# Altium schematic symbol library STM8L.SchLib: 79 symbols (part 2 of 3)
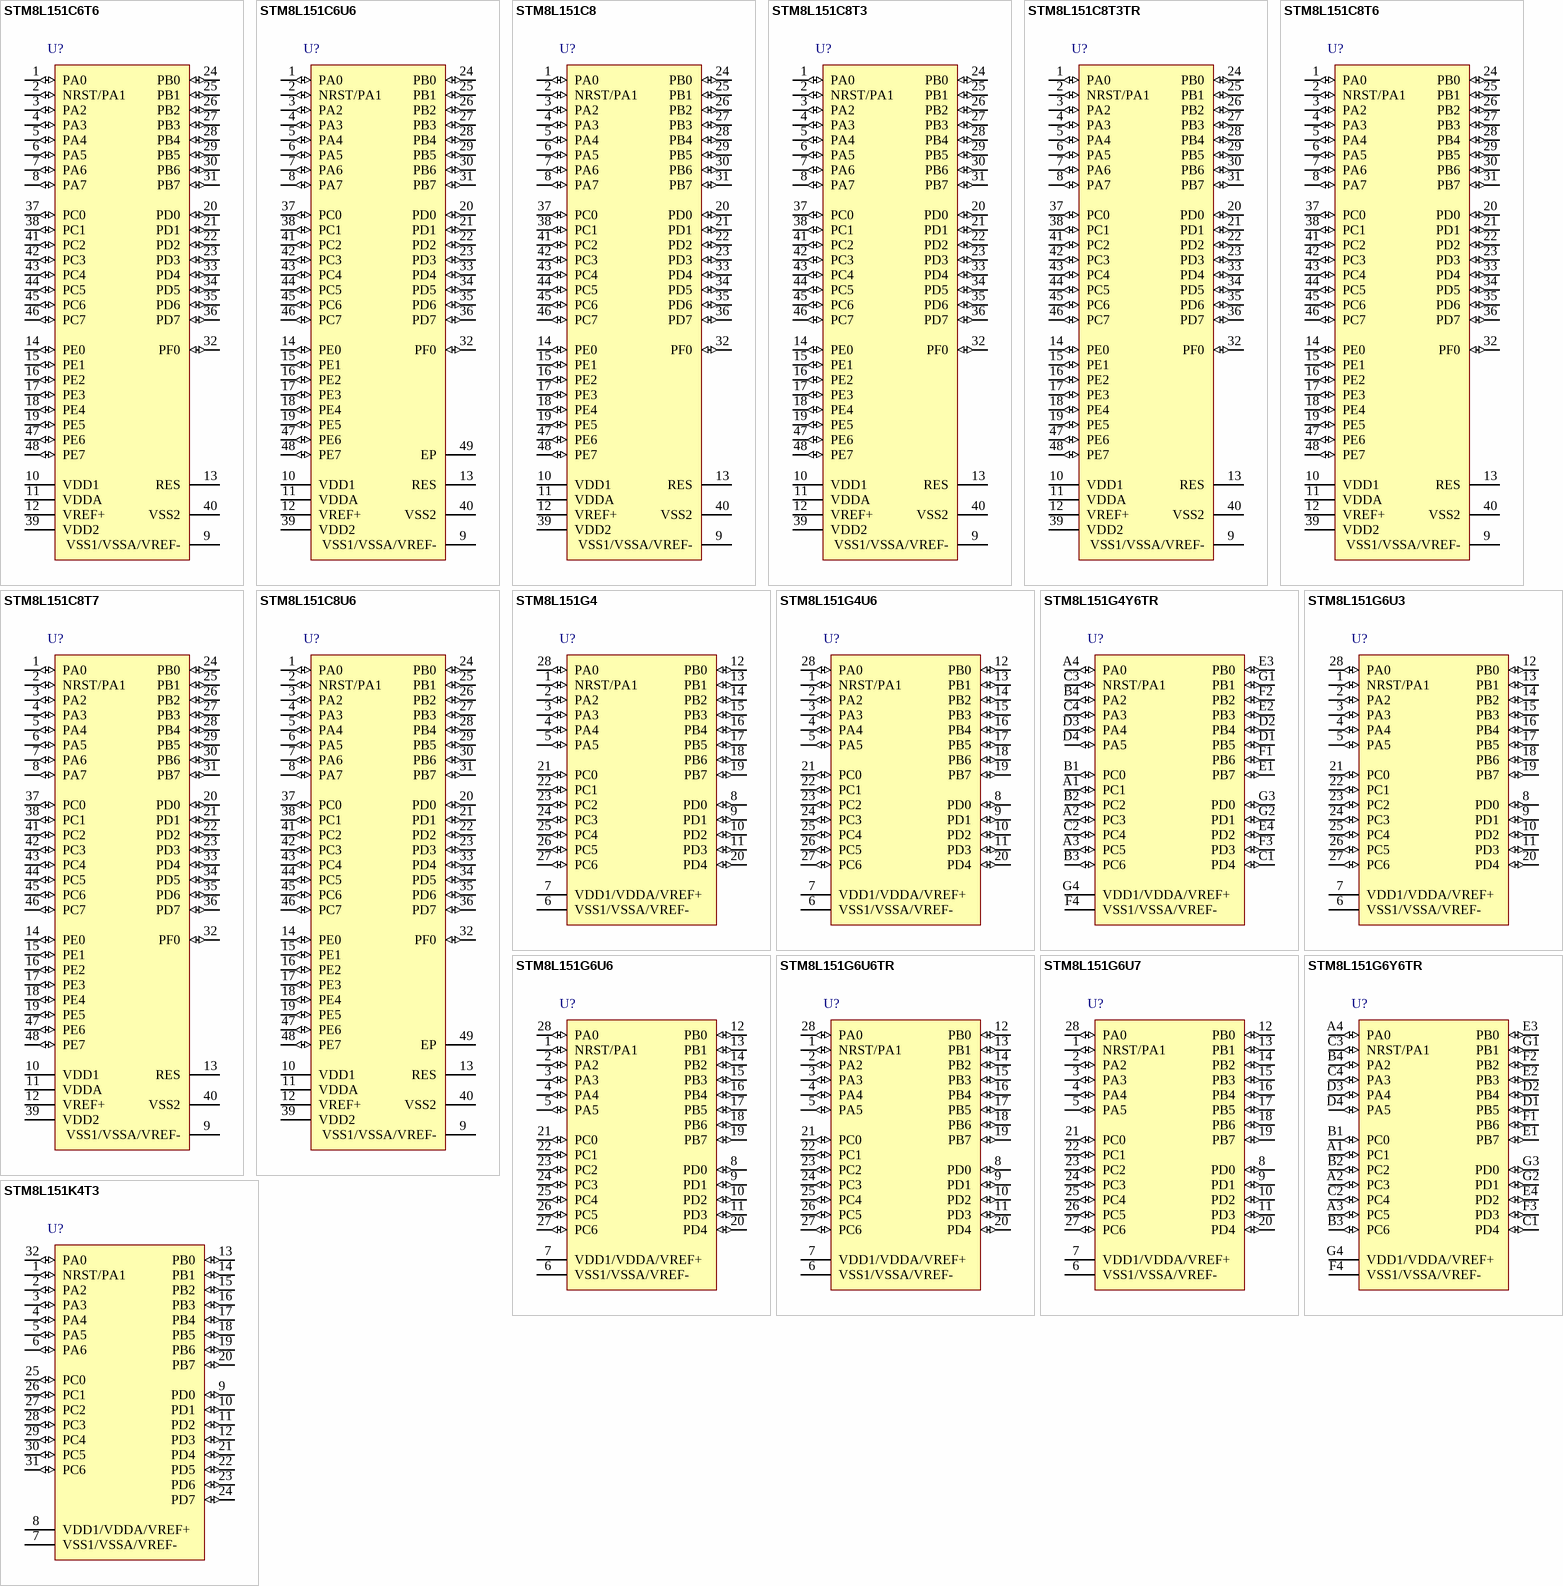
[diagram p6: symbols STM8L151C6T6 to STM8L151K4T3]

## STM8L151G4U6
designator U?
STM8L ARM-based EnergyLite 8-bit MCU, 16 kB Flash, 2 kB Internal RAM, -40 to +85°C Temperature, 28-pin UFQFPN, Tray; PackageVersion: 26/04/2010; PackageReference: UFQFPN28; PackageDescription: 28-Pin Ultra Thin Fine Pitch Quad Flat No-Lead, 4 x 4 x 0.55 mm Body, 0.5 mm Pitch; ComponentLink1Description: Manufacturer URL; ComponentLink1URL: http://www.st.com/; ComponentLink2Description: STM8L151/152,x4,x6 Datasheet; ComponentLink2URL: http://www.st.com/internet/com/TECHNICAL_RESOURCES/TECHNICAL_LITERATURE/DATASHEET/CD00240181.pdf; ComponentLink3Description: STM8L Family Web Page; ComponentLink3URL: http://www.st.com/internet/mcu/subclass/1381.jsp
footprint UFQFPN28_V (Manufacturer "STMicroelectronics" not found)
pins: 1 NRST/PA1 (io), 2 PA2 (io), 3 PA3 (io), 4 PA4 (io), 5 PA5 (io), 6 VSS1/VSSA/VREF- (power), 7 VDD1/VDDA/VREF+ (power), 8 PD0 (io), 9 PD1 (io), 10 PD2 (io), 11 PD3 (io), 12 PB0 (io), 13 PB1 (io), 14 PB2 (io), 15 PB3 (io), 16 PB4 (io), 17 PB5 (io), 18 PB6 (io), 19 PB7 (io), 20 PD4 (io), 21 PC0 (io), 22 PC1 (io), 23 PC2 (io), 24 PC3 (io), 25 PC4 (io), 26 PC5 (io), 27 PC6 (io), 28 PA0 (io)

## STM8L151G4Y6TR
designator U?
STM8L ARM-based EnergyLite 8-bit MCU, 16 kB Flash, 2 kB Internal RAM, -40 to +85°C Temperature, 28-pin WLCSP, Tape and Reel; PackageVersion: 2011; PackageReference: WLCSP28; PackageDescription: 28-Ball Wafer Level Chip Scale Package, 1.70 x 2.84 x 0.4 mm Body, 0.4 mm Pitch; ComponentLink1Description: Manufacturer URL; ComponentLink1URL: http://www.st.com/; ComponentLink2Description: STM8L151/152,x4,x6 Datasheet; ComponentLink2URL: http://www.st.com/internet/com/TECHNICAL_RESOURCES/TECHNICAL_LITERATURE/DATASHEET/CD00240181.pdf; ComponentLink3Description: STM8L Family Web Page; ComponentLink3URL: http://www.st.com/internet/mcu/subclass/1381.jsp
footprint WLCSP28 (Manufacturer "STMicroelectronics" not found)
pins: A1 PC1 (io), A2 PC3 (io), A3 PC5 (io), A4 PA0 (io), B1 PC0 (io), B2 PC2 (io), B3 PC6 (io), B4 PA2 (io), C1 PD4 (io), C2 PC4 (io), C3 NRST/PA1 (io), C4 PA3 (io), D1 PB5 (io), D2 PB4 (io), D3 PA4 (io), D4 PA5 (io), E1 PB7 (io), E2 PB3 (io), E3 PB0 (io), E4 PD2 (io), F1 PB6 (io), F2 PB2 (io), F3 PD3 (io), F4 VSS1/VSSA/VREF- (power), G1 PB1 (io), G2 PD1 (io), G3 PD0 (io), G4 VDD1/VDDA/VREF+ (power)

## STM8L151G6U3
designator U?
STM8L ARM-based EnergyLite 8-bit MCU, 32 kB Flash, 2 kB Internal RAM, -40 to +125°C Temperature, 28-pin UFQFPN, Tray; PackageVersion: 26/04/2010; PackageReference: UFQFPN28; PackageDescription: 28-Pin Ultra Thin Fine Pitch Quad Flat No-Lead, 4 x 4 x 0.55 mm Body, 0.5 mm Pitch; ComponentLink1Description: Manufacturer URL; ComponentLink1URL: http://www.st.com/; ComponentLink2Description: STM8L151/152,x4,x6 Datasheet; ComponentLink2URL: http://www.st.com/internet/com/TECHNICAL_RESOURCES/TECHNICAL_LITERATURE/DATASHEET/CD00240181.pdf; ComponentLink3Description: STM8L Family Web Page; ComponentLink3URL: http://www.st.com/internet/mcu/subclass/1381.jsp
footprint UFQFPN28_V (Manufacturer "STMicroelectronics" not found)
pins: 1 NRST/PA1 (io), 2 PA2 (io), 3 PA3 (io), 4 PA4 (io), 5 PA5 (io), 6 VSS1/VSSA/VREF- (power), 7 VDD1/VDDA/VREF+ (power), 8 PD0 (io), 9 PD1 (io), 10 PD2 (io), 11 PD3 (io), 12 PB0 (io), 13 PB1 (io), 14 PB2 (io), 15 PB3 (io), 16 PB4 (io), 17 PB5 (io), 18 PB6 (io), 19 PB7 (io), 20 PD4 (io), 21 PC0 (io), 22 PC1 (io), 23 PC2 (io), 24 PC3 (io), 25 PC4 (io), 26 PC5 (io), 27 PC6 (io), 28 PA0 (io)

## STM8L151G6U6
designator U?
STM8L ARM-based EnergyLite 8-bit MCU, 32 kB Flash, 2 kB Internal RAM, -40 to +85°C Temperature, 28-pin UFQFPN, Tray; PackageVersion: 26/04/2010; PackageReference: UFQFPN28; PackageDescription: 28-Pin Ultra Thin Fine Pitch Quad Flat No-Lead, 4 x 4 x 0.55 mm Body, 0.5 mm Pitch; ComponentLink1Description: Manufacturer URL; ComponentLink1URL: http://www.st.com/; ComponentLink2Description: STM8L151/152,x4,x6 Datasheet; ComponentLink2URL: http://www.st.com/internet/com/TECHNICAL_RESOURCES/TECHNICAL_LITERATURE/DATASHEET/CD00240181.pdf; ComponentLink3Description: STM8L Family Web Page; ComponentLink3URL: http://www.st.com/internet/mcu/subclass/1381.jsp
footprint UFQFPN28_V (Manufacturer "STMicroelectronics" not found)
pins: 1 NRST/PA1 (io), 2 PA2 (io), 3 PA3 (io), 4 PA4 (io), 5 PA5 (io), 6 VSS1/VSSA/VREF- (power), 7 VDD1/VDDA/VREF+ (power), 8 PD0 (io), 9 PD1 (io), 10 PD2 (io), 11 PD3 (io), 12 PB0 (io), 13 PB1 (io), 14 PB2 (io), 15 PB3 (io), 16 PB4 (io), 17 PB5 (io), 18 PB6 (io), 19 PB7 (io), 20 PD4 (io), 21 PC0 (io), 22 PC1 (io), 23 PC2 (io), 24 PC3 (io), 25 PC4 (io), 26 PC5 (io), 27 PC6 (io), 28 PA0 (io)

## STM8L151G6U6TR
designator U?
STM8L ARM-based EnergyLite 8-bit MCU, 32 kB Flash, 2 kB Internal RAM, -40 to +85°C Temperature, 28-pin UFQFPN, Tape and Reel; PackageVersion: 26/04/2010; PackageReference: UFQFPN28; PackageDescription: 28-Pin Ultra Thin Fine Pitch Quad Flat No-Lead, 4 x 4 x 0.55 mm Body, 0.5 mm Pitch; ComponentLink1Description: Manufacturer URL; ComponentLink1URL: http://www.st.com/; ComponentLink2Description: STM8L151/152,x4,x6 Datasheet; ComponentLink2URL: http://www.st.com/internet/com/TECHNICAL_RESOURCES/TECHNICAL_LITERATURE/DATASHEET/CD00240181.pdf; ComponentLink3Description: STM8L Family Web Page; ComponentLink3URL: http://www.st.com/internet/mcu/subclass/1381.jsp
footprint UFQFPN28_V (Manufacturer "STMicroelectronics" not found)
pins: 1 NRST/PA1 (io), 2 PA2 (io), 3 PA3 (io), 4 PA4 (io), 5 PA5 (io), 6 VSS1/VSSA/VREF- (power), 7 VDD1/VDDA/VREF+ (power), 8 PD0 (io), 9 PD1 (io), 10 PD2 (io), 11 PD3 (io), 12 PB0 (io), 13 PB1 (io), 14 PB2 (io), 15 PB3 (io), 16 PB4 (io), 17 PB5 (io), 18 PB6 (io), 19 PB7 (io), 20 PD4 (io), 21 PC0 (io), 22 PC1 (io), 23 PC2 (io), 24 PC3 (io), 25 PC4 (io), 26 PC5 (io), 27 PC6 (io), 28 PA0 (io)

## STM8L151G6U7
designator U?
STM8L ARM-based EnergyLite 8-bit MCU, 32 kB Flash, 2 kB Internal RAM, -40 to +105°C Temperature, 28-pin UFQFPN, Tray; PackageVersion: 26/04/2010; PackageReference: UFQFPN28; PackageDescription: 28-Pin Ultra Thin Fine Pitch Quad Flat No-Lead, 4 x 4 x 0.55 mm Body, 0.5 mm Pitch; ComponentLink1Description: Manufacturer URL; ComponentLink1URL: http://www.st.com/; ComponentLink2Description: STM8L151/152,x4,x6 Datasheet; ComponentLink2URL: http://www.st.com/internet/com/TECHNICAL_RESOURCES/TECHNICAL_LITERATURE/DATASHEET/CD00240181.pdf; ComponentLink3Description: STM8L Family Web Page; ComponentLink3URL: http://www.st.com/internet/mcu/subclass/1381.jsp
footprint UFQFPN28_V (Manufacturer "STMicroelectronics" not found)
pins: 1 NRST/PA1 (io), 2 PA2 (io), 3 PA3 (io), 4 PA4 (io), 5 PA5 (io), 6 VSS1/VSSA/VREF- (power), 7 VDD1/VDDA/VREF+ (power), 8 PD0 (io), 9 PD1 (io), 10 PD2 (io), 11 PD3 (io), 12 PB0 (io), 13 PB1 (io), 14 PB2 (io), 15 PB3 (io), 16 PB4 (io), 17 PB5 (io), 18 PB6 (io), 19 PB7 (io), 20 PD4 (io), 21 PC0 (io), 22 PC1 (io), 23 PC2 (io), 24 PC3 (io), 25 PC4 (io), 26 PC5 (io), 27 PC6 (io), 28 PA0 (io)

## STM8L151G6Y6TR
designator U?
STM8L ARM-based EnergyLite 8-bit MCU, 32 kB Flash, 2 kB Internal RAM, -40 to +85°C Temperature, 28-pin WLCSP, Tape and Reel; PackageVersion: 2011; PackageReference: WLCSP28; PackageDescription: 28-Ball Wafer Level Chip Scale Package, 1.70 x 2.84 x 0.4 mm Body, 0.4 mm Pitch; ComponentLink1Description: Manufacturer URL; ComponentLink1URL: http://www.st.com/; ComponentLink2Description: STM8L151/152,x4,x6 Datasheet; ComponentLink2URL: http://www.st.com/internet/com/TECHNICAL_RESOURCES/TECHNICAL_LITERATURE/DATASHEET/CD00240181.pdf; ComponentLink3Description: STM8L Family Web Page; ComponentLink3URL: http://www.st.com/internet/mcu/subclass/1381.jsp
footprint WLCSP28 (Manufacturer "STMicroelectronics" not found)
pins: A1 PC1 (io), A2 PC3 (io), A3 PC5 (io), A4 PA0 (io), B1 PC0 (io), B2 PC2 (io), B3 PC6 (io), B4 PA2 (io), C1 PD4 (io), C2 PC4 (io), C3 NRST/PA1 (io), C4 PA3 (io), D1 PB5 (io), D2 PB4 (io), D3 PA4 (io), D4 PA5 (io), E1 PB7 (io), E2 PB3 (io), E3 PB0 (io), E4 PD2 (io), F1 PB6 (io), F2 PB2 (io), F3 PD3 (io), F4 VSS1/VSSA/VREF- (power), G1 PB1 (io), G2 PD1 (io), G3 PD0 (io), G4 VDD1/VDDA/VREF+ (power)

## STM8L151K4T3
designator U?
STM8L ARM-based EnergyLite 8-bit MCU, 16 kB Flash, 2 kB Internal RAM, -40 to +125°C Temperature, 32-pin LQFP, Tray; PackageVersion: 2010; PackageReference: LQFP32; PackageDescription: 32-Pin Low Profile Quad Flat Pack, 7 x 7 mm Body, 0.8 mm Pitch; ComponentLink1Description: Manufacturer URL; ComponentLink1URL: http://www.st.com/; ComponentLink2Description: STM8L151/152,x4,x6 Datasheet; ComponentLink2URL: http://www.st.com/internet/com/TECHNICAL_RESOURCES/TECHNICAL_LITERATURE/DATASHEET/CD00240181.pdf; ComponentLink3Description: STM8L Family Web Page; ComponentLink3URL: http://www.st.com/internet/mcu/subclass/1381.jsp
footprint LQFP32_N (Manufacturer "STMicroelectronics" not found)
footprint LQFP32_L (Thin QFP, 32-Leads, Body 7x7mm, Pitch 0.8mm, IPC High Density)
footprint LQFP32_M (Thin QFP, 32-Leads, Body 7x7mm, Pitch 0.8mm, IPC Low Density)
pins: 1 NRST/PA1 (io), 2 PA2 (io), 3 PA3 (io), 4 PA4 (io), 5 PA5 (io), 6 PA6 (io), 7 VSS1/VSSA/VREF- (power), 8 VDD1/VDDA/VREF+ (power), 9 PD0 (io), 10 PD1 (io), 11 PD2 (io), 12 PD3 (io), 13 PB0 (io), 14 PB1 (io), 15 PB2 (io), 16 PB3 (io), 17 PB4 (io), 18 PB5 (io), 19 PB6 (io), 20 PB7 (io), 21 PD4 (io), 22 PD5 (io), 23 PD6 (io), 24 PD7 (io), 25 PC0 (io), 26 PC1 (io), 27 PC2 (io), 28 PC3 (io), 29 PC4 (io), 30 PC5 (io), 31 PC6 (io), 32 PA0 (io)

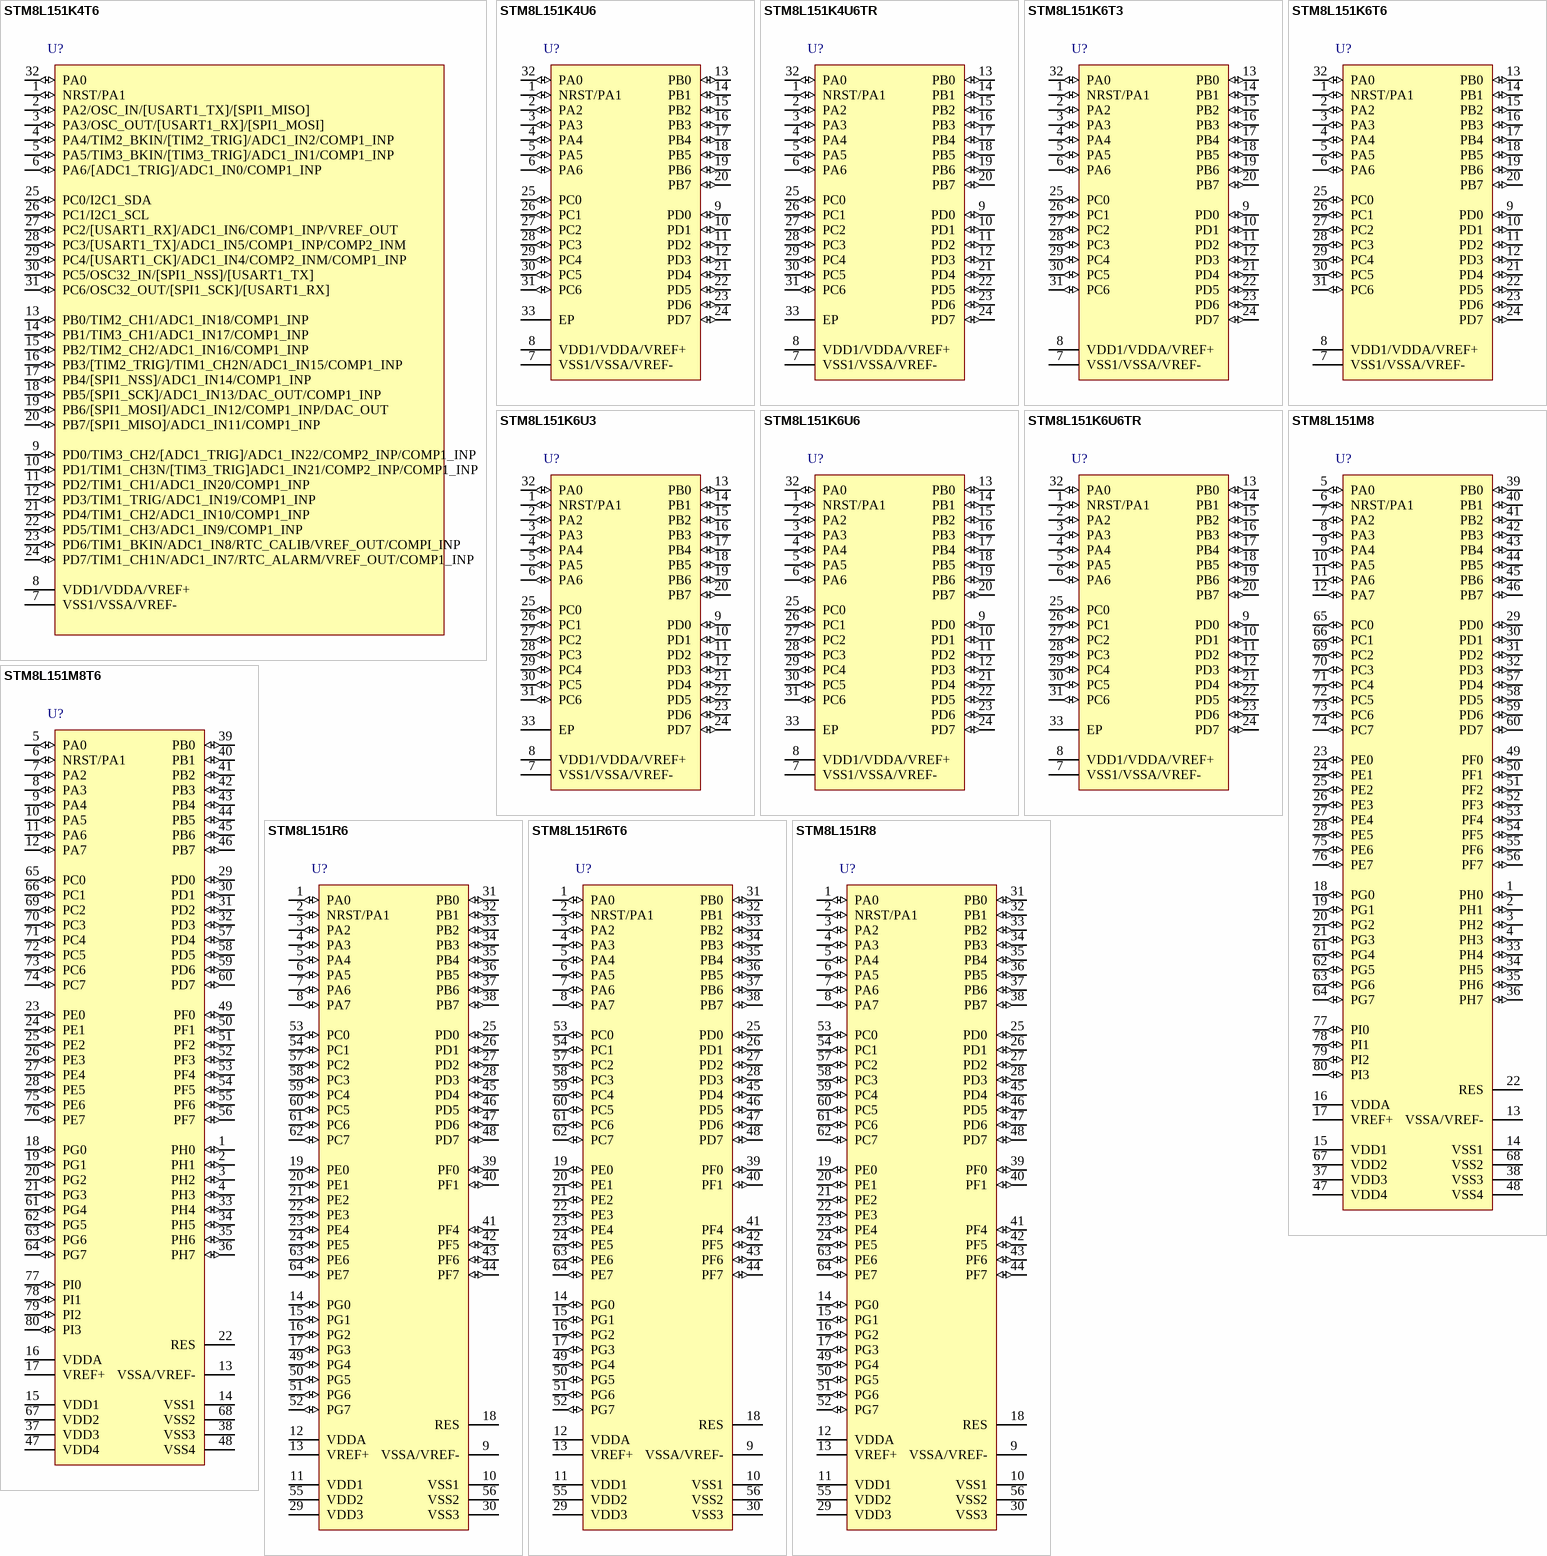
[diagram p3: symbols STM8L151K4T6 to STM8L151R8]

## STM8L151K4T6
designator U?
STM8L ARM-based EnergyLite 8-bit MCU, 16 kB Flash, 2 kB Internal RAM, -40 to +85°C Temperature, 32-pin LQFP, Tray; PackageVersion: 2010; PackageReference: LQFP32; PackageDescription: 32-Pin Low Profile Quad Flat Pack, 7 x 7 mm Body, 0.8 mm Pitch; ComponentLink1Description: Manufacturer URL; ComponentLink1URL: http://www.st.com/; ComponentLink2Description: STM8L151/152,x4,x6 Datasheet; ComponentLink2URL: http://www.st.com/internet/com/TECHNICAL_RESOURCES/TECHNICAL_LITERATURE/DATASHEET/CD00240181.pdf; ComponentLink3Description: STM8L Family Web Page; ComponentLink3URL: http://www.st.com/internet/mcu/subclass/1381.jsp
footprint LQFP32_N (Manufacturer "STMicroelectronics" not found)
footprint LQFP32_L (Thin QFP, 32-Leads, Body 7x7mm, Pitch 0.8mm, IPC High Density)
footprint LQFP32_M (Thin QFP, 32-Leads, Body 7x7mm, Pitch 0.8mm, IPC Low Density)
pins: 1 NRST/PA1 (io), 2 PA2/OSC_IN/[USART1_TX]/[SPI1_MISO] (io), 3 PA3/OSC_OUT/[USART1_RX]/[SPI1_MOSI] (io), 4 PA4/TIM2_BKIN/[TIM2_TRIG]/ADC1_IN2/COMP1_INP (io), 5 PA5/TIM3_BKIN/[TIM3_TRIG]/ADC1_IN1/COMP1_INP (io), 6 PA6/[ADC1_TRIG]/ADC1_IN0/COMP1_INP (io), 7 VSS1/VSSA/VREF- (power), 8 VDD1/VDDA/VREF+ (power), 9 PD0/TIM3_CH2/[ADC1_TRIG]/ADC1_IN22/COMP2_INP/COMP1_INP (io), 10 PD1/TIM1_CH3N/[TIM3_TRIG]ADC1_IN21/COMP2_INP/COMP1_INP (io), 11 PD2/TIM1_CH1/ADC1_IN20/COMP1_INP (io), 12 PD3/TIM1_TRIG/ADC1_IN19/COMP1_INP (io), 13 PB0/TIM2_CH1/ADC1_IN18/COMP1_INP (io), 14 PB1/TIM3_CH1/ADC1_IN17/COMP1_INP (io), 15 PB2/TIM2_CH2/ADC1_IN16/COMP1_INP (io), 16 PB3/[TIM2_TRIG]/TIM1_CH2N/ADC1_IN15/COMP1_INP (io), 17 PB4/[SPI1_NSS]/ADC1_IN14/COMP1_INP (io), 18 PB5/[SPI1_SCK]/ADC1_IN13/DAC_OUT/COMP1_INP (io), 19 PB6/[SPI1_MOSI]/ADC1_IN12/COMP1_INP/DAC_OUT (io), 20 PB7/[SPI1_MISO]/ADC1_IN11/COMP1_INP (io), 21 PD4/TIM1_CH2/ADC1_IN10/COMP1_INP (io), 22 PD5/TIM1_CH3/ADC1_IN9/COMP1_INP (io), 23 PD6/TIM1_BKIN/ADC1_IN8/RTC_CALIB/VREF_OUT/COMPI_INP (io), 24 PD7/TIM1_CH1N/ADC1_IN7/RTC_ALARM/VREF_OUT/COMP1_INP (io), 25 PC0/I2C1_SDA (io), 26 PC1/I2C1_SCL (io), 27 PC2/[USART1_RX]/ADC1_IN6/COMP1_INP/VREF_OUT (io), 28 PC3/[USART1_TX]/ADC1_IN5/COMP1_INP/COMP2_INM (io), 29 PC4/[USART1_CK]/ADC1_IN4/COMP2_INM/COMP1_INP (io), 30 PC5/OSC32_IN/[SPI1_NSS]/[USART1_TX] (io), 31 PC6/OSC32_OUT/[SPI1_SCK]/[USART1_RX] (io), 32 PA0 (io)

## STM8L151K4U6
designator U?
STM8L ARM-based EnergyLite 8-bit MCU, 16 kB Flash, 2 kB Internal RAM, -40 to +85°C Temperature, 32-pin UFQFPN, Tray; PackageVersion: 2010; PackageReference: UFQFPN32; PackageDescription: 32-Pin Ultra Thin Fine Pitch Quad Flat No-Lead, 5 x 5 X 0.6 mm Body, 0.5 mm Pitch, Exposed Pad; ComponentLink1Description: Manufacturer URL; ComponentLink1URL: http://www.st.com/; ComponentLink2Description: STM8L151/152,x4,x6 Datasheet; ComponentLink2URL: http://www.st.com/internet/com/TECHNICAL_RESOURCES/TECHNICAL_LITERATURE/DATASHEET/CD00240181.pdf; ComponentLink3Description: STM8L Family Web Page; ComponentLink3URL: http://www.st.com/internet/mcu/subclass/1381.jsp
footprint UFQFPN32_N (Manufacturer "STMicroelectronics" not found)
footprint UFQFPN32_L (QFN, 32-Leads, Body 5x5mm, Pitch 0.5mm, Thermal Pad 3.6x3.6mm, IPC High Density)
footprint UFQFPN32_M (QFN, 32-Leads, Body 5x5mm, Pitch 0.5mm, Thermal Pad 3.6x3.6mm, IPC Low Density)
pins: 1 NRST/PA1 (io), 2 PA2 (io), 3 PA3 (io), 4 PA4 (io), 5 PA5 (io), 6 PA6 (io), 7 VSS1/VSSA/VREF- (power), 8 VDD1/VDDA/VREF+ (power), 9 PD0 (io), 10 PD1 (io), 11 PD2 (io), 12 PD3 (io), 13 PB0 (io), 14 PB1 (io), 15 PB2 (io), 16 PB3 (io), 17 PB4 (io), 18 PB5 (io), 19 PB6 (io), 20 PB7 (io), 21 PD4 (io), 22 PD5 (io), 23 PD6 (io), 24 PD7 (io), 25 PC0 (io), 26 PC1 (io), 27 PC2 (io), 28 PC3 (io), 29 PC4 (io), 30 PC5 (io), 31 PC6 (io), 32 PA0 (io), 33 EP (power)

## STM8L151K4U6TR
designator U?
STM8L ARM-based EnergyLite 8-bit MCU, 16 kB Flash, 2 kB Internal RAM, -40 to +85°C Temperature, 32-pin UFQFPN, Tape and Reel; PackageVersion: 2010; PackageReference: UFQFPN32; PackageDescription: 32-Pin Ultra Thin Fine Pitch Quad Flat No-Lead, 5 x 5 X 0.6 mm Body, 0.5 mm Pitch, Exposed Pad; ComponentLink1Description: Manufacturer URL; ComponentLink1URL: http://www.st.com/; ComponentLink2Description: STM8L151/152,x4,x6 Datasheet; ComponentLink2URL: http://www.st.com/internet/com/TECHNICAL_RESOURCES/TECHNICAL_LITERATURE/DATASHEET/CD00240181.pdf; ComponentLink3Description: STM8L Family Web Page; ComponentLink3URL: http://www.st.com/internet/mcu/subclass/1381.jsp
footprint UFQFPN32_N (Manufacturer "STMicroelectronics" not found)
footprint UFQFPN32_L (QFN, 32-Leads, Body 5x5mm, Pitch 0.5mm, Thermal Pad 3.6x3.6mm, IPC High Density)
footprint UFQFPN32_M (QFN, 32-Leads, Body 5x5mm, Pitch 0.5mm, Thermal Pad 3.6x3.6mm, IPC Low Density)
pins: 1 NRST/PA1 (io), 2 PA2 (io), 3 PA3 (io), 4 PA4 (io), 5 PA5 (io), 6 PA6 (io), 7 VSS1/VSSA/VREF- (power), 8 VDD1/VDDA/VREF+ (power), 9 PD0 (io), 10 PD1 (io), 11 PD2 (io), 12 PD3 (io), 13 PB0 (io), 14 PB1 (io), 15 PB2 (io), 16 PB3 (io), 17 PB4 (io), 18 PB5 (io), 19 PB6 (io), 20 PB7 (io), 21 PD4 (io), 22 PD5 (io), 23 PD6 (io), 24 PD7 (io), 25 PC0 (io), 26 PC1 (io), 27 PC2 (io), 28 PC3 (io), 29 PC4 (io), 30 PC5 (io), 31 PC6 (io), 32 PA0 (io), 33 EP (power)

## STM8L151K6T3
designator U?
STM8L ARM-based EnergyLite 8-bit MCU, 32 kB Flash, 2 kB Internal RAM, -40 to +125°C Temperature, 32-pin LQFP, Tray; PackageVersion: 2010; PackageReference: LQFP32; PackageDescription: 32-Pin Low Profile Quad Flat Pack, 7 x 7 mm Body, 0.8 mm Pitch; ComponentLink1Description: Manufacturer URL; ComponentLink1URL: http://www.st.com/; ComponentLink2Description: STM8L151/152,x4,x6 Datasheet; ComponentLink2URL: http://www.st.com/internet/com/TECHNICAL_RESOURCES/TECHNICAL_LITERATURE/DATASHEET/CD00240181.pdf; ComponentLink3Description: STM8L Family Web Page; ComponentLink3URL: http://www.st.com/internet/mcu/subclass/1381.jsp
footprint LQFP32_N (Manufacturer "STMicroelectronics" not found)
footprint LQFP32_L (Thin QFP, 32-Leads, Body 7x7mm, Pitch 0.8mm, IPC High Density)
footprint LQFP32_M (Thin QFP, 32-Leads, Body 7x7mm, Pitch 0.8mm, IPC Low Density)
pins: 1 NRST/PA1 (io), 2 PA2 (io), 3 PA3 (io), 4 PA4 (io), 5 PA5 (io), 6 PA6 (io), 7 VSS1/VSSA/VREF- (power), 8 VDD1/VDDA/VREF+ (power), 9 PD0 (io), 10 PD1 (io), 11 PD2 (io), 12 PD3 (io), 13 PB0 (io), 14 PB1 (io), 15 PB2 (io), 16 PB3 (io), 17 PB4 (io), 18 PB5 (io), 19 PB6 (io), 20 PB7 (io), 21 PD4 (io), 22 PD5 (io), 23 PD6 (io), 24 PD7 (io), 25 PC0 (io), 26 PC1 (io), 27 PC2 (io), 28 PC3 (io), 29 PC4 (io), 30 PC5 (io), 31 PC6 (io), 32 PA0 (io)

## STM8L151K6T6
designator U?
STM8L ARM-based EnergyLite 8-bit MCU, 32 kB Flash, 2 kB Internal RAM, -40 to +85°C Temperature, 32-pin LQFP, Tray; PackageVersion: 2010; PackageReference: LQFP32; PackageDescription: 32-Pin Low Profile Quad Flat Pack, 7 x 7 mm Body, 0.8 mm Pitch; ComponentLink1Description: Manufacturer URL; ComponentLink1URL: http://www.st.com/; ComponentLink2Description: STM8L151/152,x4,x6 Datasheet; ComponentLink2URL: http://www.st.com/internet/com/TECHNICAL_RESOURCES/TECHNICAL_LITERATURE/DATASHEET/CD00240181.pdf; ComponentLink3Description: STM8L Family Web Page; ComponentLink3URL: http://www.st.com/internet/mcu/subclass/1381.jsp
footprint LQFP32_N (Manufacturer "STMicroelectronics" not found)
footprint LQFP32_L (Thin QFP, 32-Leads, Body 7x7mm, Pitch 0.8mm, IPC High Density)
footprint LQFP32_M (Thin QFP, 32-Leads, Body 7x7mm, Pitch 0.8mm, IPC Low Density)
pins: 1 NRST/PA1 (io), 2 PA2 (io), 3 PA3 (io), 4 PA4 (io), 5 PA5 (io), 6 PA6 (io), 7 VSS1/VSSA/VREF- (power), 8 VDD1/VDDA/VREF+ (power), 9 PD0 (io), 10 PD1 (io), 11 PD2 (io), 12 PD3 (io), 13 PB0 (io), 14 PB1 (io), 15 PB2 (io), 16 PB3 (io), 17 PB4 (io), 18 PB5 (io), 19 PB6 (io), 20 PB7 (io), 21 PD4 (io), 22 PD5 (io), 23 PD6 (io), 24 PD7 (io), 25 PC0 (io), 26 PC1 (io), 27 PC2 (io), 28 PC3 (io), 29 PC4 (io), 30 PC5 (io), 31 PC6 (io), 32 PA0 (io)

## STM8L151K6U3
designator U?
STM8L ARM-based EnergyLite 8-bit MCU, 32 kB Flash, 2 kB Internal RAM, -40 to +125°C Temperature, 32-pin UFQFPN, Tray; PackageVersion: 2010; PackageReference: UFQFPN32; PackageDescription: 32-Pin Ultra Thin Fine Pitch Quad Flat No-Lead, 5 x 5 X 0.6 mm Body, 0.5 mm Pitch, Exposed Pad; ComponentLink1Description: Manufacturer URL; ComponentLink1URL: http://www.st.com/; ComponentLink2Description: STM8L151/152,x4,x6 Datasheet; ComponentLink2URL: http://www.st.com/internet/com/TECHNICAL_RESOURCES/TECHNICAL_LITERATURE/DATASHEET/CD00240181.pdf; ComponentLink3Description: STM8L Family Web Page; ComponentLink3URL: http://www.st.com/internet/mcu/subclass/1381.jsp
footprint UFQFPN32_N (Manufacturer "STMicroelectronics" not found)
footprint UFQFPN32_L (QFN, 32-Leads, Body 5x5mm, Pitch 0.5mm, Thermal Pad 3.6x3.6mm, IPC High Density)
footprint UFQFPN32_M (QFN, 32-Leads, Body 5x5mm, Pitch 0.5mm, Thermal Pad 3.6x3.6mm, IPC Low Density)
pins: 1 NRST/PA1 (io), 2 PA2 (io), 3 PA3 (io), 4 PA4 (io), 5 PA5 (io), 6 PA6 (io), 7 VSS1/VSSA/VREF- (power), 8 VDD1/VDDA/VREF+ (power), 9 PD0 (io), 10 PD1 (io), 11 PD2 (io), 12 PD3 (io), 13 PB0 (io), 14 PB1 (io), 15 PB2 (io), 16 PB3 (io), 17 PB4 (io), 18 PB5 (io), 19 PB6 (io), 20 PB7 (io), 21 PD4 (io), 22 PD5 (io), 23 PD6 (io), 24 PD7 (io), 25 PC0 (io), 26 PC1 (io), 27 PC2 (io), 28 PC3 (io), 29 PC4 (io), 30 PC5 (io), 31 PC6 (io), 32 PA0 (io), 33 EP (power)

## STM8L151K6U6
designator U?
STM8L ARM-based EnergyLite 8-bit MCU, 32 kB Flash, 2 kB Internal RAM, -40 to +85°C Temperature, 32-pin UFQFPN, Tray; PackageVersion: 2010; PackageReference: UFQFPN32; PackageDescription: 32-Pin Ultra Thin Fine Pitch Quad Flat No-Lead, 5 x 5 X 0.6 mm Body, 0.5 mm Pitch, Exposed Pad; ComponentLink1Description: Manufacturer URL; ComponentLink1URL: http://www.st.com/; ComponentLink2Description: STM8L151/152,x4,x6 Datasheet; ComponentLink2URL: http://www.st.com/internet/com/TECHNICAL_RESOURCES/TECHNICAL_LITERATURE/DATASHEET/CD00240181.pdf; ComponentLink3Description: STM8L Family Web Page; ComponentLink3URL: http://www.st.com/internet/mcu/subclass/1381.jsp
footprint UFQFPN32_N (Manufacturer "STMicroelectronics" not found)
footprint UFQFPN32_L (QFN, 32-Leads, Body 5x5mm, Pitch 0.5mm, Thermal Pad 3.6x3.6mm, IPC High Density)
footprint UFQFPN32_M (QFN, 32-Leads, Body 5x5mm, Pitch 0.5mm, Thermal Pad 3.6x3.6mm, IPC Low Density)
pins: 1 NRST/PA1 (io), 2 PA2 (io), 3 PA3 (io), 4 PA4 (io), 5 PA5 (io), 6 PA6 (io), 7 VSS1/VSSA/VREF- (power), 8 VDD1/VDDA/VREF+ (power), 9 PD0 (io), 10 PD1 (io), 11 PD2 (io), 12 PD3 (io), 13 PB0 (io), 14 PB1 (io), 15 PB2 (io), 16 PB3 (io), 17 PB4 (io), 18 PB5 (io), 19 PB6 (io), 20 PB7 (io), 21 PD4 (io), 22 PD5 (io), 23 PD6 (io), 24 PD7 (io), 25 PC0 (io), 26 PC1 (io), 27 PC2 (io), 28 PC3 (io), 29 PC4 (io), 30 PC5 (io), 31 PC6 (io), 32 PA0 (io), 33 EP (power)

## STM8L151K6U6TR
designator U?
STM8L ARM-based EnergyLite 8-bit MCU, 32 kB Flash, 2 kB Internal RAM, -40 to +85°C Temperature, 32-pin UFQFPN, Tape and Reel; PackageVersion: 2010; PackageReference: UFQFPN32; PackageDescription: 32-Pin Ultra Thin Fine Pitch Quad Flat No-Lead, 5 x 5 X 0.6 mm Body, 0.5 mm Pitch, Exposed Pad; ComponentLink1Description: Manufacturer URL; ComponentLink1URL: http://www.st.com/; ComponentLink2Description: STM8L151/152,x4,x6 Datasheet; ComponentLink2URL: http://www.st.com/internet/com/TECHNICAL_RESOURCES/TECHNICAL_LITERATURE/DATASHEET/CD00240181.pdf; ComponentLink3Description: STM8L Family Web Page; ComponentLink3URL: http://www.st.com/internet/mcu/subclass/1381.jsp
footprint UFQFPN32_N (Manufacturer "STMicroelectronics" not found)
footprint UFQFPN32_L (QFN, 32-Leads, Body 5x5mm, Pitch 0.5mm, Thermal Pad 3.6x3.6mm, IPC High Density)
footprint UFQFPN32_M (QFN, 32-Leads, Body 5x5mm, Pitch 0.5mm, Thermal Pad 3.6x3.6mm, IPC Low Density)
pins: 1 NRST/PA1 (io), 2 PA2 (io), 3 PA3 (io), 4 PA4 (io), 5 PA5 (io), 6 PA6 (io), 7 VSS1/VSSA/VREF- (power), 8 VDD1/VDDA/VREF+ (power), 9 PD0 (io), 10 PD1 (io), 11 PD2 (io), 12 PD3 (io), 13 PB0 (io), 14 PB1 (io), 15 PB2 (io), 16 PB3 (io), 17 PB4 (io), 18 PB5 (io), 19 PB6 (io), 20 PB7 (io), 21 PD4 (io), 22 PD5 (io), 23 PD6 (io), 24 PD7 (io), 25 PC0 (io), 26 PC1 (io), 27 PC2 (io), 28 PC3 (io), 29 PC4 (io), 30 PC5 (io), 31 PC6 (io), 32 PA0 (io), 33 EP (power)

## STM8L151M8
designator U?
STM8L ARM-based EnergyLite 8-bit MCU, 64 kB Flash, 4 kB Internal RAM, 80-pin LQFP; PackageVersion: 1/04/2008; PackageReference: LQFP80; PackageDescription: 80-Pin Low-Profile Quad Flat Pack, 12 x 12 mm Body, 0.5 mm Pitch (LQFP80); ComponentLink1Description: Manufacturer URL; ComponentLink1URL: http://www.st.com/; ComponentLink2Description: STM8L151/152,x8,R6 Datasheet; ComponentLink2URL: http://www.st.com/internet/com/TECHNICAL_RESOURCES/TECHNICAL_LITERATURE/DATASHEET/CD00284933.pdf; ComponentLink3Description: STM8L Family Web Page; ComponentLink3URL: http://www.st.com/internet/mcu/subclass/1381.jsp
footprint LQFP80_N (Manufacturer "STMicroelectronics" not found)
footprint LQFP80_L (Thin QFP, 80-Leads, Body 12x12mm, Pitch 0.5mm, IPC High Density)
footprint LQFP80_M (Thin QFP, 80-Leads, Body 12x12mm, Pitch 0.5mm, IPC Low Density)
pins: 1 PH0 (io), 2 PH1 (io), 3 PH2 (io), 4 PH3 (io), 5 PA0 (io), 6 NRST/PA1 (io), 7 PA2 (io), 8 PA3 (io), 9 PA4 (io), 10 PA5 (io), 11 PA6 (io), 12 PA7 (io), 13 VSSA/VREF- (power), 14 VSS1 (power), 15 VDD1 (power), 16 VDDA (power), 17 VREF+ (power), 18 PG0 (io), 19 PG1 (io), 20 PG2 (io), 21 PG3 (io), 22 RES "Connect to VDD", 23 PE0 (io), 24 PE1 (io), 25 PE2 (io), 26 PE3 (io), 27 PE4 (io), 28 PE5 (io), 29 PD0 (io), 30 PD1 (io), 31 PD2 (io), 32 PD3 (io), 33 PH4 (io), 34 PH5 (io), 35 PH6 (io), 36 PH7 (io), 37 VDD3 (power), 38 VSS3 (power), 39 PB0 (io), 40 PB1 (io), 41 PB2 (io), 42 PB3 (io), 43 PB4 (io), 44 PB5 (io), 45 PB6 (io), 46 PB7 (io), 47 VDD4 (power), 48 VSS4 (power), 49 PF0 (io), 50 PF1 (io), 51 PF2 (io), 52 PF3 (io), 53 PF4 (io), 54 PF5 (io), 55 PF6 (io), 56 PF7 (io), 57 PD4 (io), 58 PD5 (io), 59 PD6 (io), 60 PD7 (io), 61 PG4 (io), 62 PG5 (io), 63 PG6 (io), 64 PG7 (io), 65 PC0 (io), 66 PC1 (io), 67 VDD2 (power), 68 VSS2 (power), 69 PC2 (io), 70 PC3 (io), 71 PC4 (io), 72 PC5 (io), 73 PC6 (io), 74 PC7 (io), 75 PE6 (io), 76 PE7 (io), 77 PI0 (io), 78 PI1 (io), 79 PI2 (io), 80 PI3 (io)

## STM8L151M8T6
designator U?
STM8L ARM-based EnergyLite 8-bit MCU, 64 kB Flash, 4 kB Internal RAM, -40 to +85°C Temperature, 80-pin LQFP, Tray; PackageVersion: 1/04/2008; PackageReference: LQFP80; PackageDescription: 80-Pin Low-Profile Quad Flat Pack, 12 x 12 mm Body, 0.5 mm Pitch (LQFP80); ComponentLink1Description: Manufacturer URL; ComponentLink1URL: http://www.st.com/; ComponentLink2Description: STM8L151/152,x8,R6 Datasheet; ComponentLink2URL: http://www.st.com/internet/com/TECHNICAL_RESOURCES/TECHNICAL_LITERATURE/DATASHEET/CD00284933.pdf; ComponentLink3Description: STM8L Family Web Page; ComponentLink3URL: http://www.st.com/internet/mcu/subclass/1381.jsp
footprint LQFP80_N (Manufacturer "STMicroelectronics" not found)
footprint LQFP80_L (Thin QFP, 80-Leads, Body 12x12mm, Pitch 0.5mm, IPC High Density)
footprint LQFP80_M (Thin QFP, 80-Leads, Body 12x12mm, Pitch 0.5mm, IPC Low Density)
pins: 1 PH0 (io), 2 PH1 (io), 3 PH2 (io), 4 PH3 (io), 5 PA0 (io), 6 NRST/PA1 (io), 7 PA2 (io), 8 PA3 (io), 9 PA4 (io), 10 PA5 (io), 11 PA6 (io), 12 PA7 (io), 13 VSSA/VREF- (power), 14 VSS1 (power), 15 VDD1 (power), 16 VDDA (power), 17 VREF+ (power), 18 PG0 (io), 19 PG1 (io), 20 PG2 (io), 21 PG3 (io), 22 RES "Connect to VDD", 23 PE0 (io), 24 PE1 (io), 25 PE2 (io), 26 PE3 (io), 27 PE4 (io), 28 PE5 (io), 29 PD0 (io), 30 PD1 (io), 31 PD2 (io), 32 PD3 (io), 33 PH4 (io), 34 PH5 (io), 35 PH6 (io), 36 PH7 (io), 37 VDD3 (power), 38 VSS3 (power), 39 PB0 (io), 40 PB1 (io), 41 PB2 (io), 42 PB3 (io), 43 PB4 (io), 44 PB5 (io), 45 PB6 (io), 46 PB7 (io), 47 VDD4 (power), 48 VSS4 (power), 49 PF0 (io), 50 PF1 (io), 51 PF2 (io), 52 PF3 (io), 53 PF4 (io), 54 PF5 (io), 55 PF6 (io), 56 PF7 (io), 57 PD4 (io), 58 PD5 (io), 59 PD6 (io), 60 PD7 (io), 61 PG4 (io), 62 PG5 (io), 63 PG6 (io), 64 PG7 (io), 65 PC0 (io), 66 PC1 (io), 67 VDD2 (power), 68 VSS2 (power), 69 PC2 (io), 70 PC3 (io), 71 PC4 (io), 72 PC5 (io), 73 PC6 (io), 74 PC7 (io), 75 PE6 (io), 76 PE7 (io), 77 PI0 (io), 78 PI1 (io), 79 PI2 (io), 80 PI3 (io)

## STM8L151R6
designator U?
STM8L ARM-based EnergyLite 8-bit MCU, 32 kB Flash, 2 kB Internal RAM, -40 to +85°C Temperature, 64-pin LQFP, Tube; PackageVersion: rev13, Apr-2011; PackageReference: LQFP64; PackageDescription: 64-Pin Low-Profile Quad Flat Pack, 10 x 10 mm Body, 0.5 mm Pitch (LQFP64); ComponentLink1Description: Manufacturer URL; ComponentLink1URL: http://www.st.com/; ComponentLink2Description: STM8L151/152,x8,R6 Datasheet; ComponentLink2URL: http://www.st.com/internet/com/TECHNICAL_RESOURCES/TECHNICAL_LITERATURE/DATASHEET/CD00284933.pdf; ComponentLink3Description: STM8L Family Web Page; ComponentLink3URL: http://www.st.com/internet/mcu/subclass/1381.jsp
footprint LQFP64_N (Manufacturer "STMicroelectronics" not found)
footprint LQFP64_L (Thin QFP, 64-Leads, Body 10x10mm, Pitch 0.5mm, IPC High Density)
footprint LQFP64_M (Thin QFP, 64-Leads, Body 10x10mm, Pitch 0.5mm, IPC Low Density)
pins: 1 PA0 (io), 2 NRST/PA1 (io), 3 PA2 (io), 4 PA3 (io), 5 PA4 (io), 6 PA5 (io), 7 PA6 (io), 8 PA7 (io), 9 VSSA/VREF- (power), 10 VSS1 (power), 11 VDD1 (power), 12 VDDA (power), 13 VREF+ (power), 14 PG0 (io), 15 PG1 (io), 16 PG2 (io), 17 PG3 (io), 18 RES "Connect to VDD", 19 PE0 (io), 20 PE1 (io), 21 PE2 (io), 22 PE3 (io), 23 PE4 (io), 24 PE5 (io), 25 PD0 (io), 26 PD1 (io), 27 PD2 (io), 28 PD3 (io), 29 VDD3 (power), 30 VSS3 (power), 31 PB0 (io), 32 PB1 (io), 33 PB2 (io), 34 PB3 (io), 35 PB4 (io), 36 PB5 (io), 37 PB6 (io), 38 PB7 (io), 39 PF0 (io), 40 PF1 (io), 41 PF4 (io), 42 PF5 (io), 43 PF6 (io), 44 PF7 (io), 45 PD4 (io), 46 PD5 (io), 47 PD6 (io), 48 PD7 (io), 49 PG4 (io), 50 PG5 (io), 51 PG6 (io), 52 PG7 (io), 53 PC0 (io), 54 PC1 (io), 55 VDD2 (power), 56 VSS2 (power), 57 PC2 (io), 58 PC3 (io), 59 PC4 (io), 60 PC5 (io), 61 PC6 (io), 62 PC7 (io), 63 PE6 (io), 64 PE7 (io)

## STM8L151R6T6
designator U?
STM8L ARM-based EnergyLite 8-bit MCU, 32 kB Flash, 2 kB Internal RAM, -40 to +85°C Temperature, 64-pin LQFP, Tray; PackageVersion: rev13, Apr-2011; PackageReference: LQFP64; PackageDescription: 64-Pin Low-Profile Quad Flat Pack, 10 x 10 mm Body, 0.5 mm Pitch (LQFP64); ComponentLink1Description: Manufacturer URL; ComponentLink1URL: http://www.st.com/; ComponentLink2Description: STM8L151/152,x8,R6 Datasheet; ComponentLink2URL: http://www.st.com/internet/com/TECHNICAL_RESOURCES/TECHNICAL_LITERATURE/DATASHEET/CD00284933.pdf; ComponentLink3Description: STM8L Family Web Page; ComponentLink3URL: http://www.st.com/internet/mcu/subclass/1381.jsp
footprint LQFP64_N (Manufacturer "STMicroelectronics" not found)
footprint LQFP64_L (Thin QFP, 64-Leads, Body 10x10mm, Pitch 0.5mm, IPC High Density)
footprint LQFP64_M (Thin QFP, 64-Leads, Body 10x10mm, Pitch 0.5mm, IPC Low Density)
pins: 1 PA0 (io), 2 NRST/PA1 (io), 3 PA2 (io), 4 PA3 (io), 5 PA4 (io), 6 PA5 (io), 7 PA6 (io), 8 PA7 (io), 9 VSSA/VREF- (power), 10 VSS1 (power), 11 VDD1 (power), 12 VDDA (power), 13 VREF+ (power), 14 PG0 (io), 15 PG1 (io), 16 PG2 (io), 17 PG3 (io), 18 RES "Connect to VDD", 19 PE0 (io), 20 PE1 (io), 21 PE2 (io), 22 PE3 (io), 23 PE4 (io), 24 PE5 (io), 25 PD0 (io), 26 PD1 (io), 27 PD2 (io), 28 PD3 (io), 29 VDD3 (power), 30 VSS3 (power), 31 PB0 (io), 32 PB1 (io), 33 PB2 (io), 34 PB3 (io), 35 PB4 (io), 36 PB5 (io), 37 PB6 (io), 38 PB7 (io), 39 PF0 (io), 40 PF1 (io), 41 PF4 (io), 42 PF5 (io), 43 PF6 (io), 44 PF7 (io), 45 PD4 (io), 46 PD5 (io), 47 PD6 (io), 48 PD7 (io), 49 PG4 (io), 50 PG5 (io), 51 PG6 (io), 52 PG7 (io), 53 PC0 (io), 54 PC1 (io), 55 VDD2 (power), 56 VSS2 (power), 57 PC2 (io), 58 PC3 (io), 59 PC4 (io), 60 PC5 (io), 61 PC6 (io), 62 PC7 (io), 63 PE6 (io), 64 PE7 (io)

## STM8L151R8
designator U?
STM8L ARM-based EnergyLite 8-bit MCU, 64 kB Flash, 4 kB Internal RAM, 64-pin LQFP; PackageVersion: rev13, Apr-2011; PackageReference: LQFP64; PackageDescription: 64-Pin Low-Profile Quad Flat Pack, 10 x 10 mm Body, 0.5 mm Pitch (LQFP64); ComponentLink1Description: Manufacturer URL; ComponentLink1URL: http://www.st.com/; ComponentLink2Description: STM8L151/152,x8,R6 Datasheet; ComponentLink2URL: http://www.st.com/internet/com/TECHNICAL_RESOURCES/TECHNICAL_LITERATURE/DATASHEET/CD00284933.pdf; ComponentLink3Description: STM8L Family Web Page; ComponentLink3URL: http://www.st.com/internet/mcu/subclass/1381.jsp
footprint LQFP64_N (Manufacturer "STMicroelectronics" not found)
footprint LQFP64_L (Thin QFP, 64-Leads, Body 10x10mm, Pitch 0.5mm, IPC High Density)
footprint LQFP64_M (Thin QFP, 64-Leads, Body 10x10mm, Pitch 0.5mm, IPC Low Density)
pins: 1 PA0 (io), 2 NRST/PA1 (io), 3 PA2 (io), 4 PA3 (io), 5 PA4 (io), 6 PA5 (io), 7 PA6 (io), 8 PA7 (io), 9 VSSA/VREF- (power), 10 VSS1 (power), 11 VDD1 (power), 12 VDDA (power), 13 VREF+ (power), 14 PG0 (io), 15 PG1 (io), 16 PG2 (io), 17 PG3 (io), 18 RES "Connect to VDD", 19 PE0 (io), 20 PE1 (io), 21 PE2 (io), 22 PE3 (io), 23 PE4 (io), 24 PE5 (io), 25 PD0 (io), 26 PD1 (io), 27 PD2 (io), 28 PD3 (io), 29 VDD3 (power), 30 VSS3 (power), 31 PB0 (io), 32 PB1 (io), 33 PB2 (io), 34 PB3 (io), 35 PB4 (io), 36 PB5 (io), 37 PB6 (io), 38 PB7 (io), 39 PF0 (io), 40 PF1 (io), 41 PF4 (io), 42 PF5 (io), 43 PF6 (io), 44 PF7 (io), 45 PD4 (io), 46 PD5 (io), 47 PD6 (io), 48 PD7 (io), 49 PG4 (io), 50 PG5 (io), 51 PG6 (io), 52 PG7 (io), 53 PC0 (io), 54 PC1 (io), 55 VDD2 (power), 56 VSS2 (power), 57 PC2 (io), 58 PC3 (io), 59 PC4 (io), 60 PC5 (io), 61 PC6 (io), 62 PC7 (io), 63 PE6 (io), 64 PE7 (io)

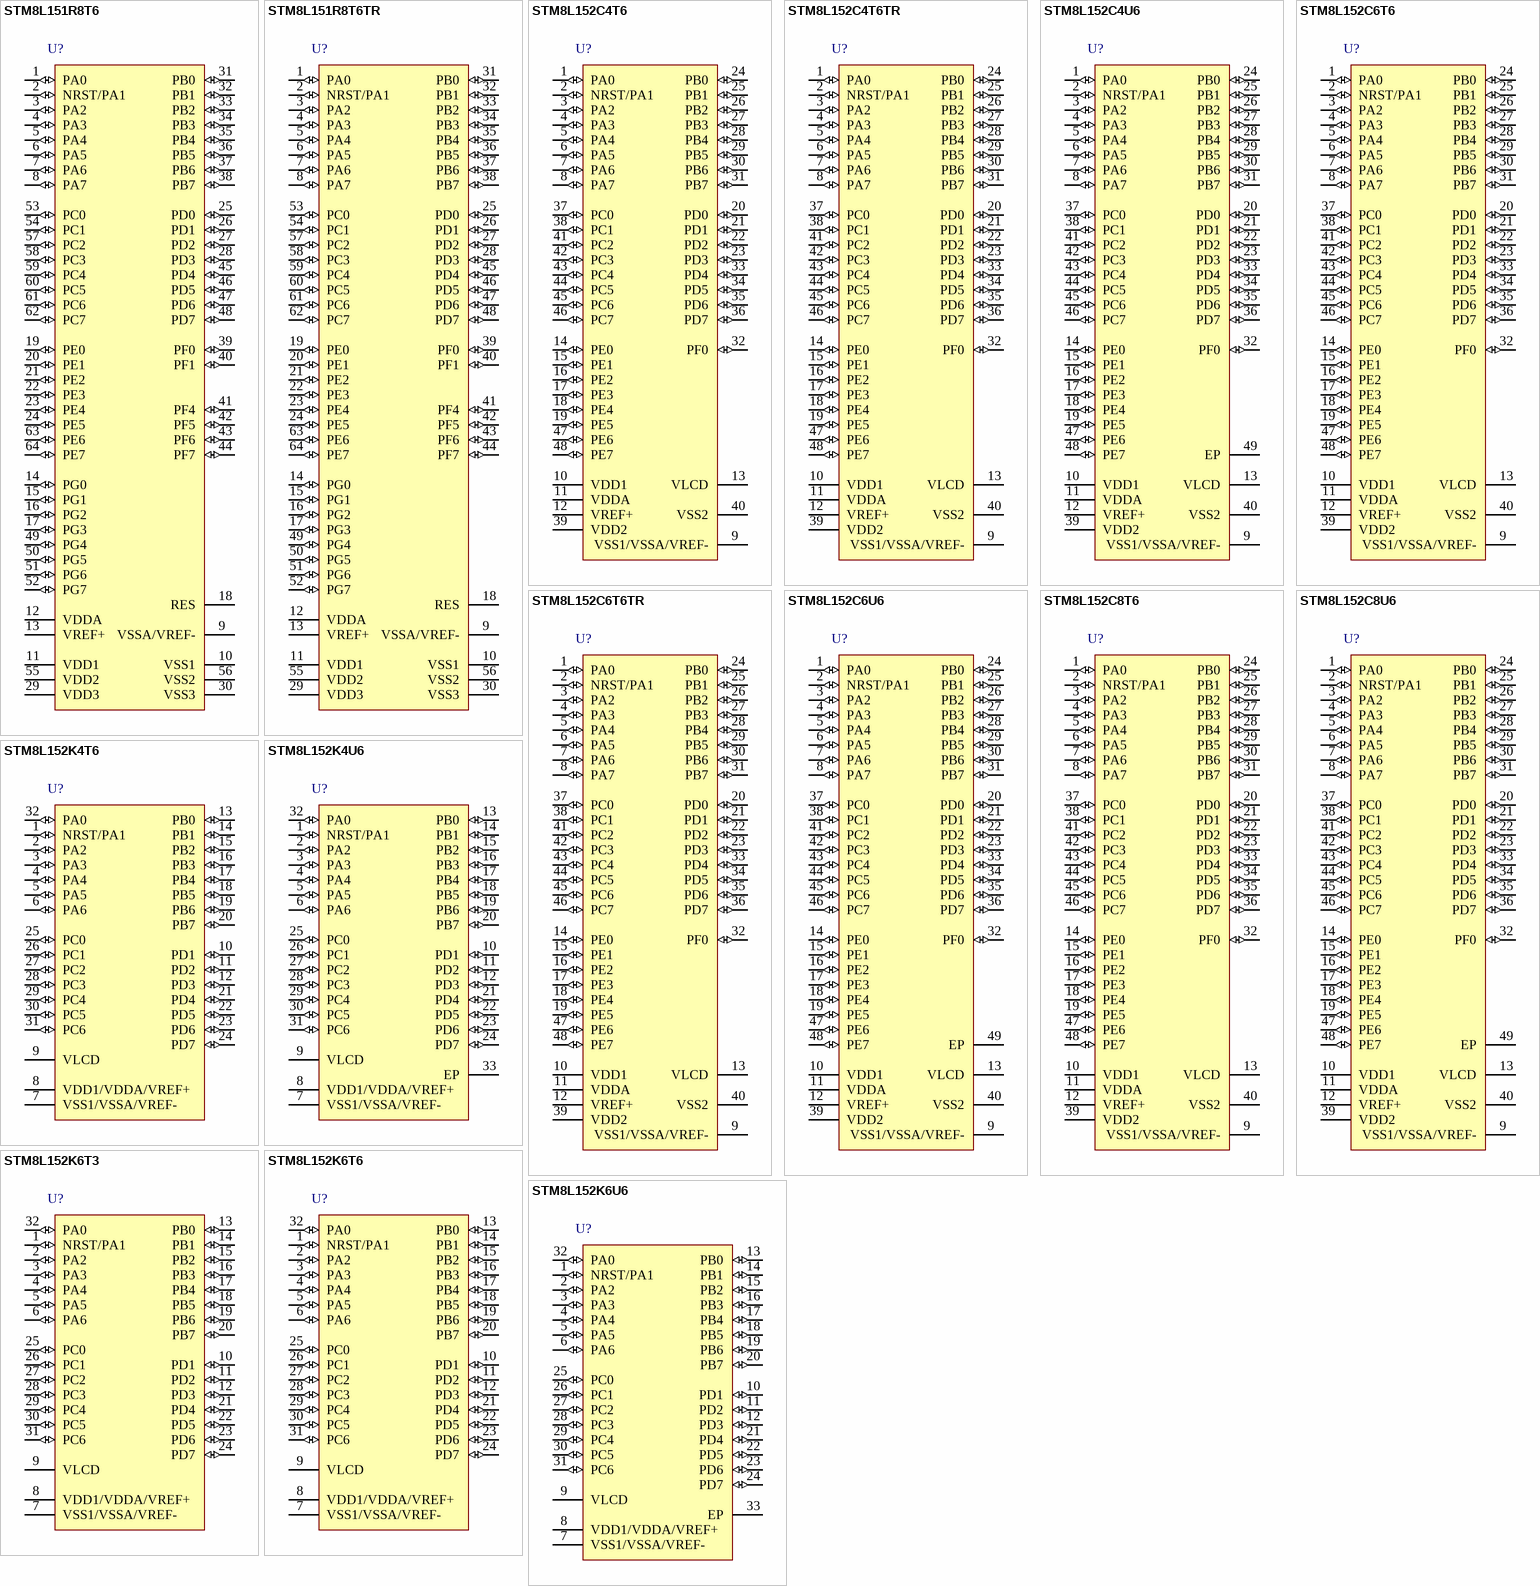
[diagram p4: symbols STM8L151R8T6 to STM8L152K6U6]

## STM8L151R8T6
designator U?
STM8L ARM-based EnergyLite 8-bit MCU, 64 kB Flash, 4 kB Internal RAM, -40 to +85°C Temperature, 64-pin LQFP, Tray; PackageVersion: rev13, Apr-2011; PackageReference: LQFP64; PackageDescription: 64-Pin Low-Profile Quad Flat Pack, 10 x 10 mm Body, 0.5 mm Pitch (LQFP64); ComponentLink1Description: Manufacturer URL; ComponentLink1URL: http://www.st.com/; ComponentLink2Description: STM8L151/152,x8,R6 Datasheet; ComponentLink2URL: http://www.st.com/internet/com/TECHNICAL_RESOURCES/TECHNICAL_LITERATURE/DATASHEET/CD00284933.pdf; ComponentLink3Description: STM8L Family Web Page; ComponentLink3URL: http://www.st.com/internet/mcu/subclass/1381.jsp
footprint LQFP64_N (Manufacturer "STMicroelectronics" not found)
footprint LQFP64_L (Thin QFP, 64-Leads, Body 10x10mm, Pitch 0.5mm, IPC High Density)
footprint LQFP64_M (Thin QFP, 64-Leads, Body 10x10mm, Pitch 0.5mm, IPC Low Density)
pins: 1 PA0 (io), 2 NRST/PA1 (io), 3 PA2 (io), 4 PA3 (io), 5 PA4 (io), 6 PA5 (io), 7 PA6 (io), 8 PA7 (io), 9 VSSA/VREF- (power), 10 VSS1 (power), 11 VDD1 (power), 12 VDDA (power), 13 VREF+ (power), 14 PG0 (io), 15 PG1 (io), 16 PG2 (io), 17 PG3 (io), 18 RES "Connect to VDD", 19 PE0 (io), 20 PE1 (io), 21 PE2 (io), 22 PE3 (io), 23 PE4 (io), 24 PE5 (io), 25 PD0 (io), 26 PD1 (io), 27 PD2 (io), 28 PD3 (io), 29 VDD3 (power), 30 VSS3 (power), 31 PB0 (io), 32 PB1 (io), 33 PB2 (io), 34 PB3 (io), 35 PB4 (io), 36 PB5 (io), 37 PB6 (io), 38 PB7 (io), 39 PF0 (io), 40 PF1 (io), 41 PF4 (io), 42 PF5 (io), 43 PF6 (io), 44 PF7 (io), 45 PD4 (io), 46 PD5 (io), 47 PD6 (io), 48 PD7 (io), 49 PG4 (io), 50 PG5 (io), 51 PG6 (io), 52 PG7 (io), 53 PC0 (io), 54 PC1 (io), 55 VDD2 (power), 56 VSS2 (power), 57 PC2 (io), 58 PC3 (io), 59 PC4 (io), 60 PC5 (io), 61 PC6 (io), 62 PC7 (io), 63 PE6 (io), 64 PE7 (io)

## STM8L151R8T6TR
designator U?
STM8L ARM-based EnergyLite 8-bit MCU, 64 kB Flash, 4 kB Internal RAM, -40 to +85°C Temperature, 64-pin LQFP, Tape and Reel; PackageVersion: rev13, Apr-2011; PackageReference: LQFP64; PackageDescription: 64-Pin Low-Profile Quad Flat Pack, 10 x 10 mm Body, 0.5 mm Pitch (LQFP64); ComponentLink1Description: Manufacturer URL; ComponentLink1URL: http://www.st.com/; ComponentLink2Description: STM8L151/152,x8,R6 Datasheet; ComponentLink2URL: http://www.st.com/internet/com/TECHNICAL_RESOURCES/TECHNICAL_LITERATURE/DATASHEET/CD00284933.pdf; ComponentLink3Description: STM8L Family Web Page; ComponentLink3URL: http://www.st.com/internet/mcu/subclass/1381.jsp
footprint LQFP64_N (Manufacturer "STMicroelectronics" not found)
footprint LQFP64_L (Thin QFP, 64-Leads, Body 10x10mm, Pitch 0.5mm, IPC High Density)
footprint LQFP64_M (Thin QFP, 64-Leads, Body 10x10mm, Pitch 0.5mm, IPC Low Density)
pins: 1 PA0 (io), 2 NRST/PA1 (io), 3 PA2 (io), 4 PA3 (io), 5 PA4 (io), 6 PA5 (io), 7 PA6 (io), 8 PA7 (io), 9 VSSA/VREF- (power), 10 VSS1 (power), 11 VDD1 (power), 12 VDDA (power), 13 VREF+ (power), 14 PG0 (io), 15 PG1 (io), 16 PG2 (io), 17 PG3 (io), 18 RES "Connect to VDD", 19 PE0 (io), 20 PE1 (io), 21 PE2 (io), 22 PE3 (io), 23 PE4 (io), 24 PE5 (io), 25 PD0 (io), 26 PD1 (io), 27 PD2 (io), 28 PD3 (io), 29 VDD3 (power), 30 VSS3 (power), 31 PB0 (io), 32 PB1 (io), 33 PB2 (io), 34 PB3 (io), 35 PB4 (io), 36 PB5 (io), 37 PB6 (io), 38 PB7 (io), 39 PF0 (io), 40 PF1 (io), 41 PF4 (io), 42 PF5 (io), 43 PF6 (io), 44 PF7 (io), 45 PD4 (io), 46 PD5 (io), 47 PD6 (io), 48 PD7 (io), 49 PG4 (io), 50 PG5 (io), 51 PG6 (io), 52 PG7 (io), 53 PC0 (io), 54 PC1 (io), 55 VDD2 (power), 56 VSS2 (power), 57 PC2 (io), 58 PC3 (io), 59 PC4 (io), 60 PC5 (io), 61 PC6 (io), 62 PC7 (io), 63 PE6 (io), 64 PE7 (io)

## STM8L152C4T6
designator U?
STM8L ARM-based EnergyLite 8-bit MCU, LCD, 16 kB Flash, 2 kB Internal RAM, -40 to +85°C Temperature, 48-pin LQFP, Tray; PackageVersion: rev13, Apr-2011; PackageReference: LQFP48; PackageDescription: 48-Pin Low-Profile Quad Flat Pack, 7 x 7 mm Body, 0.5 mm Pitch (LQFP48); ComponentLink1Description: Manufacturer URL; ComponentLink1URL: http://www.st.com/; ComponentLink2Description: STM8L151/152,x4,x6 Datasheet; ComponentLink2URL: http://www.st.com/internet/com/TECHNICAL_RESOURCES/TECHNICAL_LITERATURE/DATASHEET/CD00240181.pdf; ComponentLink3Description: STM8L Family Web Page; ComponentLink3URL: http://www.st.com/internet/mcu/subclass/1381.jsp
footprint LQFP48_N (Manufacturer "STMicroelectronics" not found)
footprint LQFP48_L (Thin QFP, 48-Leads, Body 7x7mm, Pitch 0.5mm, IPC High Density)
footprint LQFP48_M (Thin QFP, 48-Leads, Body 7x7mm, Pitch 0.5mm, IPC Low Density)
pins: 1 PA0 (io), 2 NRST/PA1 (io), 3 PA2 (io), 4 PA3 (io), 5 PA4 (io), 6 PA5 (io), 7 PA6 (io), 8 PA7 (io), 9 VSS1/VSSA/VREF- (power), 10 VDD1 (power), 11 VDDA (power), 12 VREF+ (power), 13 VLCD, 14 PE0 (io), 15 PE1 (io), 16 PE2 (io), 17 PE3 (io), 18 PE4 (io), 19 PE5 (io), 20 PD0 (io), 21 PD1 (io), 22 PD2 (io), 23 PD3 (io), 24 PB0 (io), 25 PB1 (io), 26 PB2 (io), 27 PB3 (io), 28 PB4 (io), 29 PB5 (io), 30 PB6 (io), 31 PB7 (io), 32 PF0 (io), 33 PD4 (io), 34 PD5 (io), 35 PD6 (io), 36 PD7 (io), 37 PC0 (io), 38 PC1 (io), 39 VDD2 (power), 40 VSS2 (power), 41 PC2 (io), 42 PC3 (io), 43 PC4 (io), 44 PC5 (io), 45 PC6 (io), 46 PC7 (io), 47 PE6 (io), 48 PE7 (io)

## STM8L152C4T6TR
designator U?
STM8L ARM-based EnergyLite 8-bit MCU, LCD, 16 kB Flash, 2 kB Internal RAM, -40 to +85°C Temperature, 48-pin LQFP, Tape and Reel; PackageVersion: rev13, Apr-2011; PackageReference: LQFP48; PackageDescription: 48-Pin Low-Profile Quad Flat Pack, 7 x 7 mm Body, 0.5 mm Pitch (LQFP48); ComponentLink1Description: Manufacturer URL; ComponentLink1URL: http://www.st.com/; ComponentLink2Description: STM8L151/152,x4,x6 Datasheet; ComponentLink2URL: http://www.st.com/internet/com/TECHNICAL_RESOURCES/TECHNICAL_LITERATURE/DATASHEET/CD00240181.pdf; ComponentLink3Description: STM8L Family Web Page; ComponentLink3URL: http://www.st.com/internet/mcu/subclass/1381.jsp
footprint LQFP48_N (Manufacturer "STMicroelectronics" not found)
footprint LQFP48_L (Thin QFP, 48-Leads, Body 7x7mm, Pitch 0.5mm, IPC High Density)
footprint LQFP48_M (Thin QFP, 48-Leads, Body 7x7mm, Pitch 0.5mm, IPC Low Density)
pins: 1 PA0 (io), 2 NRST/PA1 (io), 3 PA2 (io), 4 PA3 (io), 5 PA4 (io), 6 PA5 (io), 7 PA6 (io), 8 PA7 (io), 9 VSS1/VSSA/VREF- (power), 10 VDD1 (power), 11 VDDA (power), 12 VREF+ (power), 13 VLCD, 14 PE0 (io), 15 PE1 (io), 16 PE2 (io), 17 PE3 (io), 18 PE4 (io), 19 PE5 (io), 20 PD0 (io), 21 PD1 (io), 22 PD2 (io), 23 PD3 (io), 24 PB0 (io), 25 PB1 (io), 26 PB2 (io), 27 PB3 (io), 28 PB4 (io), 29 PB5 (io), 30 PB6 (io), 31 PB7 (io), 32 PF0 (io), 33 PD4 (io), 34 PD5 (io), 35 PD6 (io), 36 PD7 (io), 37 PC0 (io), 38 PC1 (io), 39 VDD2 (power), 40 VSS2 (power), 41 PC2 (io), 42 PC3 (io), 43 PC4 (io), 44 PC5 (io), 45 PC6 (io), 46 PC7 (io), 47 PE6 (io), 48 PE7 (io)

## STM8L152C4U6
designator U?
STM8L ARM-based EnergyLite 8-bit MCU, LCD, 16 kB Flash, 2 kB Internal RAM, -40 to +85°C Temperature, 48-pin UFQFPN, Tray; PackageVersion: 2011; PackageReference: UFQFPN48; PackageDescription: 48-Pin Ultra Thin Fine Pitch Quad Flat No-Lead, 7 x 7 x 0.55 mm Body, 0.5 mm Pitch, Exposed Pad; ComponentLink1Description: Manufacturer URL; ComponentLink1URL: http://www.st.com/; ComponentLink2Description: STM8L151/152,x4,x6 Datasheet; ComponentLink2URL: http://www.st.com/internet/com/TECHNICAL_RESOURCES/TECHNICAL_LITERATURE/DATASHEET/CD00240181.pdf; ComponentLink3Description: STM8L Family Web Page; ComponentLink3URL: http://www.st.com/internet/mcu/subclass/1381.jsp
footprint UFQFPN48_N (Manufacturer "STMicroelectronics" not found)
footprint UFQFPN48_L (QFN, 48-Leads, Body 7x7mm, Pitch 0.5mm, Thermal Pad 5.6x5.6mm, IPC High Density)
footprint UFQFPN48_M (QFN, 48-Leads, Body 7x7mm, Pitch 0.5mm, Thermal Pad 5.6x5.6mm, IPC Low Density)
pins: 1 PA0 (io), 2 NRST/PA1 (io), 3 PA2 (io), 4 PA3 (io), 5 PA4 (io), 6 PA5 (io), 7 PA6 (io), 8 PA7 (io), 9 VSS1/VSSA/VREF- (power), 10 VDD1 (power), 11 VDDA (power), 12 VREF+ (power), 13 VLCD, 14 PE0 (io), 15 PE1 (io), 16 PE2 (io), 17 PE3 (io), 18 PE4 (io), 19 PE5 (io), 20 PD0 (io), 21 PD1 (io), 22 PD2 (io), 23 PD3 (io), 24 PB0 (io), 25 PB1 (io), 26 PB2 (io), 27 PB3 (io), 28 PB4 (io), 29 PB5 (io), 30 PB6 (io), 31 PB7 (io), 32 PF0 (io), 33 PD4 (io), 34 PD5 (io), 35 PD6 (io), 36 PD7 (io), 37 PC0 (io), 38 PC1 (io), 39 VDD2 (power), 40 VSS2 (power), 41 PC2 (io), 42 PC3 (io), 43 PC4 (io), 44 PC5 (io), 45 PC6 (io), 46 PC7 (io), 47 PE6 (io), 48 PE7 (io), 49 EP (power)

## STM8L152C6T6
designator U?
STM8L ARM-based EnergyLite 8-bit MCU, LCD, 32 kB Flash, 2 kB Internal RAM, -40 to +85°C Temperature, 48-pin LQFP, Tray; PackageVersion: rev13, Apr-2011; PackageReference: LQFP48; PackageDescription: 48-Pin Low-Profile Quad Flat Pack, 7 x 7 mm Body, 0.5 mm Pitch (LQFP48); ComponentLink1Description: Manufacturer URL; ComponentLink1URL: http://www.st.com/; ComponentLink2Description: STM8L151/152,x4,x6 Datasheet; ComponentLink2URL: http://www.st.com/internet/com/TECHNICAL_RESOURCES/TECHNICAL_LITERATURE/DATASHEET/CD00240181.pdf; ComponentLink3Description: STM8L Family Web Page; ComponentLink3URL: http://www.st.com/internet/mcu/subclass/1381.jsp
footprint LQFP48_N (Manufacturer "STMicroelectronics" not found)
footprint LQFP48_L (Thin QFP, 48-Leads, Body 7x7mm, Pitch 0.5mm, IPC High Density)
footprint LQFP48_M (Thin QFP, 48-Leads, Body 7x7mm, Pitch 0.5mm, IPC Low Density)
pins: 1 PA0 (io), 2 NRST/PA1 (io), 3 PA2 (io), 4 PA3 (io), 5 PA4 (io), 6 PA5 (io), 7 PA6 (io), 8 PA7 (io), 9 VSS1/VSSA/VREF- (power), 10 VDD1 (power), 11 VDDA (power), 12 VREF+ (power), 13 VLCD, 14 PE0 (io), 15 PE1 (io), 16 PE2 (io), 17 PE3 (io), 18 PE4 (io), 19 PE5 (io), 20 PD0 (io), 21 PD1 (io), 22 PD2 (io), 23 PD3 (io), 24 PB0 (io), 25 PB1 (io), 26 PB2 (io), 27 PB3 (io), 28 PB4 (io), 29 PB5 (io), 30 PB6 (io), 31 PB7 (io), 32 PF0 (io), 33 PD4 (io), 34 PD5 (io), 35 PD6 (io), 36 PD7 (io), 37 PC0 (io), 38 PC1 (io), 39 VDD2 (power), 40 VSS2 (power), 41 PC2 (io), 42 PC3 (io), 43 PC4 (io), 44 PC5 (io), 45 PC6 (io), 46 PC7 (io), 47 PE6 (io), 48 PE7 (io)

## STM8L152C6T6TR
designator U?
STM8L ARM-based EnergyLite 8-bit MCU, LCD, 32 kB Flash, 2 kB Internal RAM, -40 to +85°C Temperature, 48-pin LQFP, Tape and Reel; PackageVersion: rev13, Apr-2011; PackageReference: LQFP48; PackageDescription: 48-Pin Low-Profile Quad Flat Pack, 7 x 7 mm Body, 0.5 mm Pitch (LQFP48); ComponentLink1Description: Manufacturer URL; ComponentLink1URL: http://www.st.com/; ComponentLink2Description: STM8L151/152,x4,x6 Datasheet; ComponentLink2URL: http://www.st.com/internet/com/TECHNICAL_RESOURCES/TECHNICAL_LITERATURE/DATASHEET/CD00240181.pdf; ComponentLink3Description: STM8L Family Web Page; ComponentLink3URL: http://www.st.com/internet/mcu/subclass/1381.jsp
footprint LQFP48_N (Manufacturer "STMicroelectronics" not found)
footprint LQFP48_L (Thin QFP, 48-Leads, Body 7x7mm, Pitch 0.5mm, IPC High Density)
footprint LQFP48_M (Thin QFP, 48-Leads, Body 7x7mm, Pitch 0.5mm, IPC Low Density)
pins: 1 PA0 (io), 2 NRST/PA1 (io), 3 PA2 (io), 4 PA3 (io), 5 PA4 (io), 6 PA5 (io), 7 PA6 (io), 8 PA7 (io), 9 VSS1/VSSA/VREF- (power), 10 VDD1 (power), 11 VDDA (power), 12 VREF+ (power), 13 VLCD, 14 PE0 (io), 15 PE1 (io), 16 PE2 (io), 17 PE3 (io), 18 PE4 (io), 19 PE5 (io), 20 PD0 (io), 21 PD1 (io), 22 PD2 (io), 23 PD3 (io), 24 PB0 (io), 25 PB1 (io), 26 PB2 (io), 27 PB3 (io), 28 PB4 (io), 29 PB5 (io), 30 PB6 (io), 31 PB7 (io), 32 PF0 (io), 33 PD4 (io), 34 PD5 (io), 35 PD6 (io), 36 PD7 (io), 37 PC0 (io), 38 PC1 (io), 39 VDD2 (power), 40 VSS2 (power), 41 PC2 (io), 42 PC3 (io), 43 PC4 (io), 44 PC5 (io), 45 PC6 (io), 46 PC7 (io), 47 PE6 (io), 48 PE7 (io)

## STM8L152C6U6
designator U?
STM8L ARM-based EnergyLite 8-bit MCU, LCD, 32 kB Flash, 2 kB Internal RAM, -40 to +85°C Temperature, 48-pin UFQFPN, Tray; PackageVersion: 2011; PackageReference: UFQFPN48; PackageDescription: 48-Pin Ultra Thin Fine Pitch Quad Flat No-Lead, 7 x 7 x 0.55 mm Body, 0.5 mm Pitch, Exposed Pad; ComponentLink1Description: Manufacturer URL; ComponentLink1URL: http://www.st.com/; ComponentLink2Description: STM8L151/152,x4,x6 Datasheet; ComponentLink2URL: http://www.st.com/internet/com/TECHNICAL_RESOURCES/TECHNICAL_LITERATURE/DATASHEET/CD00240181.pdf; ComponentLink3Description: STM8L Family Web Page; ComponentLink3URL: http://www.st.com/internet/mcu/subclass/1381.jsp
footprint UFQFPN48_N (Manufacturer "STMicroelectronics" not found)
footprint UFQFPN48_L (QFN, 48-Leads, Body 7x7mm, Pitch 0.5mm, Thermal Pad 5.6x5.6mm, IPC High Density)
footprint UFQFPN48_M (QFN, 48-Leads, Body 7x7mm, Pitch 0.5mm, Thermal Pad 5.6x5.6mm, IPC Low Density)
pins: 1 PA0 (io), 2 NRST/PA1 (io), 3 PA2 (io), 4 PA3 (io), 5 PA4 (io), 6 PA5 (io), 7 PA6 (io), 8 PA7 (io), 9 VSS1/VSSA/VREF- (power), 10 VDD1 (power), 11 VDDA (power), 12 VREF+ (power), 13 VLCD, 14 PE0 (io), 15 PE1 (io), 16 PE2 (io), 17 PE3 (io), 18 PE4 (io), 19 PE5 (io), 20 PD0 (io), 21 PD1 (io), 22 PD2 (io), 23 PD3 (io), 24 PB0 (io), 25 PB1 (io), 26 PB2 (io), 27 PB3 (io), 28 PB4 (io), 29 PB5 (io), 30 PB6 (io), 31 PB7 (io), 32 PF0 (io), 33 PD4 (io), 34 PD5 (io), 35 PD6 (io), 36 PD7 (io), 37 PC0 (io), 38 PC1 (io), 39 VDD2 (power), 40 VSS2 (power), 41 PC2 (io), 42 PC3 (io), 43 PC4 (io), 44 PC5 (io), 45 PC6 (io), 46 PC7 (io), 47 PE6 (io), 48 PE7 (io), 49 EP (power)

## STM8L152C8T6
designator U?
STM8L ARM-based EnergyLite 8-bit MCU, LCD, 64 kB Flash, 4 kB Internal RAM, -40 to +85°C Temperature, 48-pin LQFP, Tray; PackageVersion: rev13, Apr-2011; PackageReference: LQFP48; PackageDescription: 48-Pin Low-Profile Quad Flat Pack, 7 x 7 mm Body, 0.5 mm Pitch (LQFP48); ComponentLink1Description: Manufacturer URL; ComponentLink1URL: http://www.st.com/; ComponentLink2Description: STM8L151/152,x8,R6 Datasheet; ComponentLink2URL: http://www.st.com/internet/com/TECHNICAL_RESOURCES/TECHNICAL_LITERATURE/DATASHEET/CD00284933.pdf; ComponentLink3Description: STM8L Family Web Page; ComponentLink3URL: http://www.st.com/internet/mcu/subclass/1381.jsp
footprint LQFP48_N (Manufacturer "STMicroelectronics" not found)
footprint LQFP48_L (Thin QFP, 48-Leads, Body 7x7mm, Pitch 0.5mm, IPC High Density)
footprint LQFP48_M (Thin QFP, 48-Leads, Body 7x7mm, Pitch 0.5mm, IPC Low Density)
pins: 1 PA0 (io), 2 NRST/PA1 (io), 3 PA2 (io), 4 PA3 (io), 5 PA4 (io), 6 PA5 (io), 7 PA6 (io), 8 PA7 (io), 9 VSS1/VSSA/VREF- (power), 10 VDD1 (power), 11 VDDA (power), 12 VREF+ (power), 13 VLCD, 14 PE0 (io), 15 PE1 (io), 16 PE2 (io), 17 PE3 (io), 18 PE4 (io), 19 PE5 (io), 20 PD0 (io), 21 PD1 (io), 22 PD2 (io), 23 PD3 (io), 24 PB0 (io), 25 PB1 (io), 26 PB2 (io), 27 PB3 (io), 28 PB4 (io), 29 PB5 (io), 30 PB6 (io), 31 PB7 (io), 32 PF0 (io), 33 PD4 (io), 34 PD5 (io), 35 PD6 (io), 36 PD7 (io), 37 PC0 (io), 38 PC1 (io), 39 VDD2 (power), 40 VSS2 (power), 41 PC2 (io), 42 PC3 (io), 43 PC4 (io), 44 PC5 (io), 45 PC6 (io), 46 PC7 (io), 47 PE6 (io), 48 PE7 (io)

## STM8L152C8U6
designator U?
STM8L ARM-based EnergyLite 8-bit MCU, LCD, 64 kB Flash, 4 kB Internal RAM, -40 to +85°C Temperature, 48-pin UFQFPN, Tray; PackageVersion: 2011; PackageReference: UFQFPN48; PackageDescription: 48-Pin Ultra Thin Fine Pitch Quad Flat No-Lead, 7 x 7 x 0.55 mm Body, 0.5 mm Pitch, Exposed Pad; ComponentLink1Description: Manufacturer URL; ComponentLink1URL: http://www.st.com/; ComponentLink2Description: STM8L151/152,x8,R6 Datasheet; ComponentLink2URL: http://www.st.com/internet/com/TECHNICAL_RESOURCES/TECHNICAL_LITERATURE/DATASHEET/CD00284933.pdf; ComponentLink3Description: STM8L Family Web Page; ComponentLink3URL: http://www.st.com/internet/mcu/subclass/1381.jsp
footprint UFQFPN48_N (Manufacturer "STMicroelectronics" not found)
footprint UFQFPN48_L (QFN, 48-Leads, Body 7x7mm, Pitch 0.5mm, Thermal Pad 5.6x5.6mm, IPC High Density)
footprint UFQFPN48_M (QFN, 48-Leads, Body 7x7mm, Pitch 0.5mm, Thermal Pad 5.6x5.6mm, IPC Low Density)
pins: 1 PA0 (io), 2 NRST/PA1 (io), 3 PA2 (io), 4 PA3 (io), 5 PA4 (io), 6 PA5 (io), 7 PA6 (io), 8 PA7 (io), 9 VSS1/VSSA/VREF- (power), 10 VDD1 (power), 11 VDDA (power), 12 VREF+ (power), 13 VLCD, 14 PE0 (io), 15 PE1 (io), 16 PE2 (io), 17 PE3 (io), 18 PE4 (io), 19 PE5 (io), 20 PD0 (io), 21 PD1 (io), 22 PD2 (io), 23 PD3 (io), 24 PB0 (io), 25 PB1 (io), 26 PB2 (io), 27 PB3 (io), 28 PB4 (io), 29 PB5 (io), 30 PB6 (io), 31 PB7 (io), 32 PF0 (io), 33 PD4 (io), 34 PD5 (io), 35 PD6 (io), 36 PD7 (io), 37 PC0 (io), 38 PC1 (io), 39 VDD2 (power), 40 VSS2 (power), 41 PC2 (io), 42 PC3 (io), 43 PC4 (io), 44 PC5 (io), 45 PC6 (io), 46 PC7 (io), 47 PE6 (io), 48 PE7 (io), 49 EP (power)

## STM8L152K4T6
designator U?
STM8L ARM-based EnergyLite 8-bit MCU, LCD, 16 kB Flash, 2 kB Internal RAM, -40 to +85°C Temperature, 32-pin LQFP, Tray; PackageVersion: 2010; PackageReference: LQFP32; PackageDescription: 32-Pin Low Profile Quad Flat Pack, 7 x 7 mm Body, 0.8 mm Pitch; ComponentLink1Description: Manufacturer URL; ComponentLink1URL: http://www.st.com/; ComponentLink2Description: STM8L151/152,x4,x6 Datasheet; ComponentLink2URL: http://www.st.com/internet/com/TECHNICAL_RESOURCES/TECHNICAL_LITERATURE/DATASHEET/CD00240181.pdf; ComponentLink3Description: STM8L Family Web Page; ComponentLink3URL: http://www.st.com/internet/mcu/subclass/1381.jsp
footprint LQFP32_N (Manufacturer "STMicroelectronics" not found)
footprint LQFP32_L (Thin QFP, 32-Leads, Body 7x7mm, Pitch 0.8mm, IPC High Density)
footprint LQFP32_M (Thin QFP, 32-Leads, Body 7x7mm, Pitch 0.8mm, IPC Low Density)
pins: 1 NRST/PA1 (io), 2 PA2 (io), 3 PA3 (io), 4 PA4 (io), 5 PA5 (io), 6 PA6 (io), 7 VSS1/VSSA/VREF- (power), 8 VDD1/VDDA/VREF+ (power), 9 VLCD, 10 PD1 (io), 11 PD2 (io), 12 PD3 (io), 13 PB0 (io), 14 PB1 (io), 15 PB2 (io), 16 PB3 (io), 17 PB4 (io), 18 PB5 (io), 19 PB6 (io), 20 PB7 (io), 21 PD4 (io), 22 PD5 (io), 23 PD6 (io), 24 PD7 (io), 25 PC0 (io), 26 PC1 (io), 27 PC2 (io), 28 PC3 (io), 29 PC4 (io), 30 PC5 (io), 31 PC6 (io), 32 PA0 (io)